# Altium schematic symbol library Lamp.SchLib: 1 symbol
Pins are listed as number, name and electrical type; pins without a type are passive.

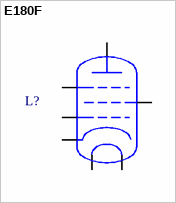
[diagram p0: symbol E180F]

## E180F
designator L?  (value not drawn)
footprint E180F
pins: a, f1, f2, g1, g2, g3, k